# Altium schematic symbol library U_RT9187CGB.SchLib: 1 symbol
Pins are listed as number, name and electrical type; pins without a type are passive.

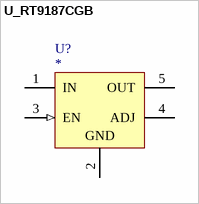
[diagram p0: symbol U_RT9187CGB]

## U_RT9187CGB
designator U?
pins: 1 IN (power) "Input supply voltage", 2 GND (power) "Ground", 3 EN (in) "Enable input", 4 ADJ "No connected", 5 OUT (power) "Regulated output voltage"